# EAGLE library part RELAIS_DSBT2-S-DC5V (library SMD-Components_E950)
DS-BT RELAYS 4,000 V BREAKDOWN VOLTAGE NAiS Source: http://www.mew-europe.com/.. en_ds_61005_0010.pdf
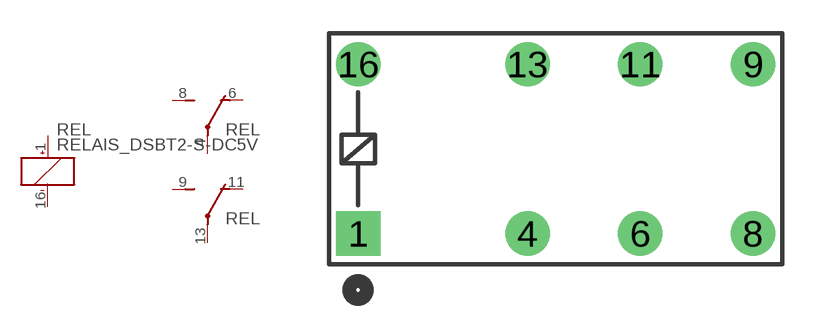
[diagram p12: symbol with the pads of RELAIS_DSBT2-S-DC5V; footprint RELAIS_DSBT2-S-DC5V]

Designator prefix REL; gates 1=RELAIS_DSBT2-S-DC5V_SPULE 2=RELAIS_DSBT2-S-DC5V_KONTAKT 3=RELAIS_DSBT2-S-DC5V_KONTAKT

## RELAIS_DSBT2-S-DC5VS-DC5V (OC_FARNELL: unknown; OC_NEWARK: unknown)  [RELAIS_DSBT2-S-DC5V]
1  1:+  pas
4  2:P  pas
6  2:O  pas
8  2:S  pas
9  3:S  pas
11  3:O  pas
13  3:P  pas
16  1:-  pas

## Footprint RELAIS_DSBT2-S-DC5V (pad centres in mm)
DS-BT RELAYS 4,000 V BREAKDOWN VOLTAGE NAiS Source: http://www.mew-europe.com/.. en_ds_61005_0010.pdf
drill 0.95 pad 2 square: 1 -8.89,-3.81
drill 0.95 pad 2: 4 -1.27,-3.81; 6 3.81,-3.81; 8 8.89,-3.81; 9 8.89,3.81; 11 3.81,3.81; 13 -1.27,3.81; 16 -8.89,3.81